# Altium schematic symbol library Sch_ArrayDiodo.SchLib: 1 symbol
Pins are listed as number, name and electrical type; pins without a type are passive.

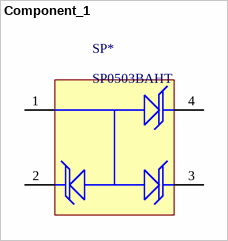
[diagram p0: symbol Component_1]

## Component_1
designator SP*, comment SP0503BAHT
Diode Array 30pF 30kV
footprint SOT190P237X120-4N (SOT143, 4-Leads, Body 2,92x2,37mm, Pitch 1,90mm, IPC Medium Density)
pins: 1, 2, 3, 4